# Altium footprint library 16ssop635.PcbLib: 1 footprints
Each footprint in its own frame and in the unit in brackets; x right, y up, seen from the top. Pads: shape width x height; smd on the part's side, far side on the other; paste and mask are expansions set on the pad; w line width, h text height; cw(c..) or ccw(c..) is an arc to the next point about the centre after c.
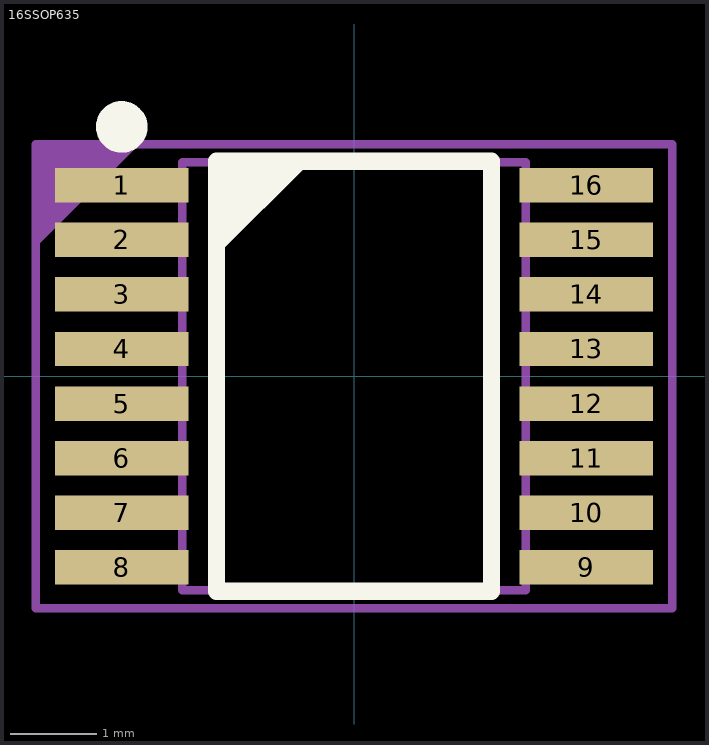
[diagram p0: the footprint, top view; thin cyan lines are the x and y axes]

## 16SSOP635 [mm] "SOP, 16-Leads, Body 5.0x4.0mm (max), Pitch 0.64mm, IPC High Density"
height 1.75
pads (16):
  rect 1.55x0.4 smd: 1(-2.7,2.222) 2(-2.7,1.587) 3(-2.7,0.953) 4(-2.7,0.318) 5(-2.7,-0.318) 6(-2.7,-0.953) 7(-2.7,-1.587) 8(-2.7,-2.222) 9(2.7,-2.222) 10(2.7,-1.587) 11(2.7,-0.953) 12(2.7,-0.318) 13(2.7,0.318) 14(2.7,0.953) 15(2.7,1.587) 16(2.7,2.222)
Top Overlay:
  circle w0.3: c-2.7,2.9 r0.15
  region: -1.6,2.5 -0.5,2.5 -1.6,1.4
  lines w0.2: -1.6,-2.5 -1.6,2.5 1.6,2.5 1.6,-2.5 -1.6,-2.5
Top 3D Body:
  lines w0.1: -1.995,-2.49 -1.995,2.49 1.995,2.49 1.995,-2.49 -1.995,-2.49
Top Courtyard:
  region: -3.7,2.7 -2.5,2.7 -3.7,1.5
  lines w0.1: -3.7,-2.7 -3.7,2.7 3.7,2.7 3.7,-2.7 -3.7,-2.7
Top Designator (Mech17):
  text ".Designator" at -1.28,-0.18 h0.6
3D body "User Library-SSOP16.step": height 1.11, standoff 0.01, extent -2.997,-2.526 2.997,2.452